# Altium schematic symbol library Schlib1.SchLib: 1 symbol
Pins are listed as number, name and electrical type; pins without a type are passive.

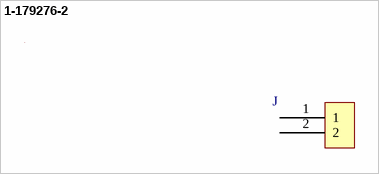
[diagram p0: symbol 1-179276-2]

## 1-179276-2
designator J, comment CONN HEADER R/A 2POS 5.08MM  (value not drawn)
/ Connector Header Through Hole, Right Angle 2 position 0.200" (5.08mm); Manufacturer: TE Connectivity AMP Connectors; Manufacturer Product Number: 1-179276-2; Supplier 1: Digikey; Supplier Part Number 1: A29545-ND; ComponentLink1Description: product page; ComponentLink1URL: https://www.digikey.com/en/products/detail/te-connectivity-amp/1-179276-2/664296?curr=usd&utm_campaign=buynow&utm_medium=aggregator&utm_source=octopart
pins: 1, 2